# Altium schematic symbol library SCH - POWER - LINEAR VREG - TI TPS70102PWP.SchLib: 1 symbol
Pins are listed as number, name and electrical type; pins without a type are passive.

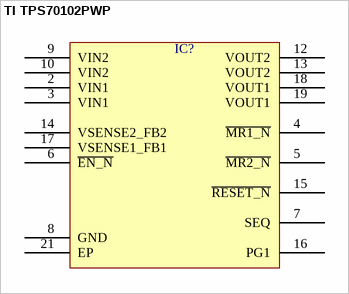
[diagram p0: symbol TI TPS70102PWP]

## TI TPS70102PWP
designator IC?  (value not drawn)
pins: 2 VIN1, 3 VIN1, 4 ~{MR1_N}, 5 ~{MR2_N}, 6 ~{EN_N}, 7 SEQ, 8 GND, 9 VIN2, 10 VIN2, 12 VOUT2, 13 VOUT2, 14 VSENSE2_FB2, 15 ~{RESET_N}, 16 PG1, 17 VSENSE1_FB1, 18 VOUT1, 19 VOUT1, 21 EP